# Altium footprint library BMP384.PcbLib: 3 footprints
Each footprint in its own frame and in the unit in brackets; x right, y up, seen from the top. Pads: shape width x height; smd on the part's side, far side on the other; paste and mask are expansions set on the pad; w line width, h text height; cw(c..) or ccw(c..) is an arc to the next point about the centre after c.
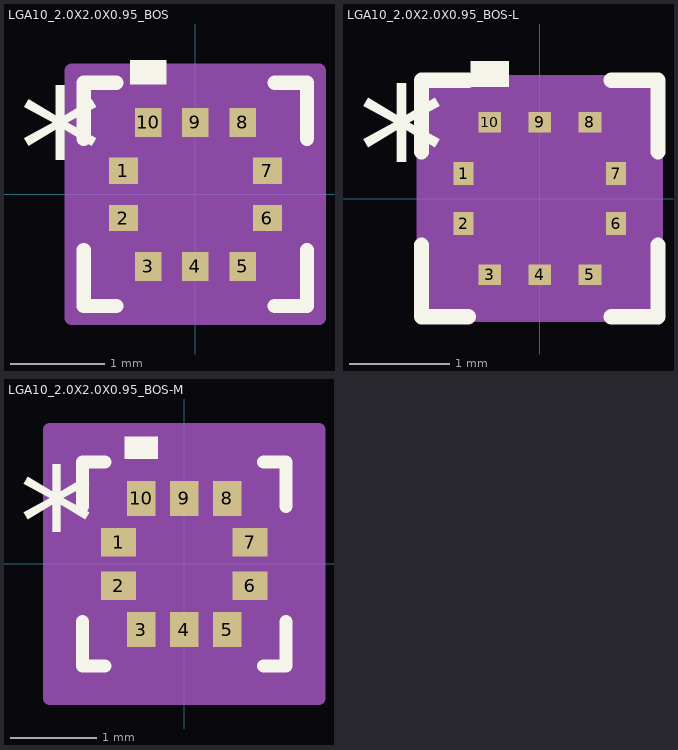
[diagram p0: the footprints below, top view; thin cyan lines are the x and y axes]

## LGA10_2.0X2.0X0.95_BOS [mil]
pads (10):
  rect 12x11 smd paste+0 mask+0: 1(-30,9.84) 2(-30,-9.84) 6(30,-9.84) 7(30,9.84)
  rect 11x12 smd paste+0 mask+0: 3(-19.68,-30) 4(0,-30) 5(19.68,-30) 8(19.68,30) 9(0,30) 10(-19.68,30)
Top Overlay:
  region: -12.19,46 -27.18,46 -27.18,56 -12.19,56
  lines w6: -46.5,-23.18 -46.5,-46.5 -33.02,-46.5 ; -46.5,23.18 -46.5,46.5 -33.02,46.5 ; 33.02,-46.5 46.5,-46.5 46.5,-23.18 ; 33.02,46.5 46.5,46.5 46.5,23.18
  text "*" at -73.5,-5.32 h50
Mechanical 13:
  lines w1: -41.5,-8.5 8.5,41.5 ; -41.5,-41.5 41.5,-41.5 ; -41.5,-41.5 -41.5,41.5 ; -41.5,-41.5 -41.5,-41.5 ; -41.5,41.5 41.5,41.5 ; -41.5,41.5 -41.5,41.5 ; 41.5,-41.5 41.5,-41.5 ; 41.5,-41.5 41.5,41.5 ; 41.5,41.5 41.5,41.5 ; -41.5,-15.34 -41.5,-4.34 -36,-4.34 -36,-15.34 -41.5,-15.34 ; -41.5,4.34 -41.5,15.34 -36,15.34 -36,4.34 -41.5,4.34 ; -25.18,-41.5 -14.19,-41.5 -14.19,-36 -25.18,-36 -25.18,-41.5 ; -25.18,36 -14.19,36 -14.19,41.5 -25.18,41.5 -25.18,36 ; -5.5,-41.5 5.5,-41.5 5.5,-36 -5.5,-36 -5.5,-41.5 ; -5.5,36 5.5,36 5.5,41.5 -5.5,41.5 -5.5,36 ; 14.19,-41.5 25.18,-41.5 25.18,-36 14.19,-36 14.19,-41.5 ; 14.19,36 25.18,36 25.18,41.5 14.19,41.5 14.19,36 ; 36,-15.34 41.5,-15.34 41.5,-4.34 36,-4.34 36,-15.34 ; 36,4.34 41.5,4.34 41.5,15.34 36,15.34 36,4.34
  text "*" at -36.5,-5.32 h50
Mechanical 15:
  region: -35.19,-51.5 -51.5,-51.5 -51.5,-25.34 -51.5,25.34 -51.5,51.5 -35.19,51.5 35.19,51.5 51.5,51.5 51.5,25.34 51.5,-25.34 51.5,-51.5 35.19,-51.5
  lines w6: -51.5,-25.34 -51.5,-51.5 -35.19,-51.5 ; -51.5,-25.34 -51.5,-25.34 ; -51.5,-25.34 -51.5,25.34 ; -51.5,25.34 -51.5,25.34 ; -51.5,25.34 -51.5,51.5 -35.19,51.5 ; -35.19,-51.5 35.19,-51.5 ; -35.19,-51.5 -35.19,-51.5 ; -35.19,51.5 -35.19,51.5 ; -35.19,51.5 35.19,51.5 ; 35.19,-51.5 51.5,-51.5 51.5,-25.34 ; 35.19,-51.5 35.19,-51.5 ; 35.19,51.5 35.19,51.5 ; 35.19,51.5 51.5,51.5 51.5,25.34 ; 51.5,-25.34 51.5,25.34 ; 51.5,-25.34 51.5,-25.34 ; 51.5,25.34 51.5,25.34
3D body "LGA10_20X20X095_BOS.step": height 39.09, standoff 0, extent -41.5,-41.5 41.5,41.5

## LGA10_2.0X2.0X0.95_BOS-L [mil]
pads (10):
  rect 8x9 smd paste+0 mask+0: 1(-30,9.84) 2(-30,-9.84) 6(30,-9.84) 7(30,9.84)
  rect 9x8 smd paste+0 mask+0: 3(-19.68,-30) 4(0,-30) 5(19.68,-30) 8(19.68,30) 9(0,30) 10(-19.68,30)
Top Overlay:
  region: -12.19,44 -27.18,44 -27.18,54 -12.19,54
  lines w6: -46.5,-18.26 -46.5,-46.5 -28.1,-46.5 ; -46.5,18.26 -46.5,46.5 -28.1,46.5 ; 28.1,-46.5 46.5,-46.5 46.5,-18.26 ; 28.1,46.5 46.5,46.5 46.5,18.26
  text "*" at -71.5,-5.32 h50
Mechanical 13:
  lines w1: -41.5,-8.5 8.5,41.5 ; -41.5,-41.5 41.5,-41.5 ; -41.5,-41.5 -41.5,41.5 ; -41.5,-41.5 -41.5,-41.5 ; -41.5,41.5 41.5,41.5 ; -41.5,41.5 -41.5,41.5 ; 41.5,-41.5 41.5,-41.5 ; 41.5,-41.5 41.5,41.5 ; 41.5,41.5 41.5,41.5 ; -41.5,-15.34 -41.5,-4.34 -36,-4.34 -36,-15.34 -41.5,-15.34 ; -41.5,4.34 -41.5,15.34 -36,15.34 -36,4.34 -41.5,4.34 ; -25.18,-41.5 -14.19,-41.5 -14.19,-36 -25.18,-36 -25.18,-41.5 ; -25.18,36 -14.19,36 -14.19,41.5 -25.18,41.5 -25.18,36 ; -5.5,-41.5 5.5,-41.5 5.5,-36 -5.5,-36 -5.5,-41.5 ; -5.5,36 5.5,36 5.5,41.5 -5.5,41.5 -5.5,36 ; 14.19,-41.5 25.18,-41.5 25.18,-36 14.19,-36 14.19,-41.5 ; 14.19,36 25.18,36 25.18,41.5 14.19,41.5 14.19,36 ; 36,-15.34 41.5,-15.34 41.5,-4.34 36,-4.34 36,-15.34 ; 36,4.34 41.5,4.34 41.5,15.34 36,15.34 36,4.34
  text "*" at -38.5,-5.32 h50
Mechanical 15:
  region: -28.18,-45.5 -45.5,-45.5 -45.5,-18.34 -45.5,18.34 -45.5,45.5 -28.18,45.5 28.18,45.5 45.5,45.5 45.5,18.34 45.5,-18.34 45.5,-45.5 28.18,-45.5
  lines w6: -45.5,-18.34 -45.5,-45.5 -28.18,-45.5 ; -45.5,-18.34 -45.5,-18.34 ; -45.5,-18.34 -45.5,18.34 ; -45.5,18.34 -45.5,18.34 ; -45.5,18.34 -45.5,45.5 -28.18,45.5 ; -28.18,-45.5 28.18,-45.5 ; -28.18,-45.5 -28.18,-45.5 ; -28.18,45.5 -28.18,45.5 ; -28.18,45.5 28.18,45.5 ; 28.18,-45.5 45.5,-45.5 45.5,-18.34 ; 28.18,-45.5 28.18,-45.5 ; 28.18,45.5 28.18,45.5 ; 28.18,45.5 45.5,45.5 45.5,18.34 ; 45.5,-18.34 45.5,18.34 ; 45.5,-18.34 45.5,-18.34 ; 45.5,18.34 45.5,18.34
3D body: height 10, standoff 0, extent 0,0 10,10

## LGA10_2.0X2.0X0.95_BOS-M [mil]
pads (10):
  rect 16x13 smd paste+0 mask+0: 1(-30,9.84) 2(-30,-9.84) 6(30,-9.84) 7(30,9.84)
  rect 13x16 smd paste+0 mask+0: 3(-19.68,-30) 4(0,-30) 5(19.68,-30) 8(19.68,30) 9(0,30) 10(-19.68,30)
Top Overlay:
  region: -12.19,48 -27.18,48 -27.18,58 -12.19,58
  lines w6: -46.5,-26.31 -46.5,-46.5 -36.15,-46.5 ; -46.5,26.31 -46.5,46.5 -36.15,46.5 ; 36.15,-46.5 46.5,-46.5 46.5,-26.31 ; 36.15,46.5 46.5,46.5 46.5,26.31
  text "*" at -75.5,-5.32 h50
Mechanical 13:
  lines w1: -41.5,-8.5 8.5,41.5 ; -41.5,-41.5 41.5,-41.5 ; -41.5,-41.5 -41.5,41.5 ; -41.5,-41.5 -41.5,-41.5 ; -41.5,41.5 41.5,41.5 ; -41.5,41.5 -41.5,41.5 ; 41.5,-41.5 41.5,-41.5 ; 41.5,-41.5 41.5,41.5 ; 41.5,41.5 41.5,41.5 ; -41.5,-15.34 -41.5,-4.34 -36,-4.34 -36,-15.34 -41.5,-15.34 ; -41.5,4.34 -41.5,15.34 -36,15.34 -36,4.34 -41.5,4.34 ; -25.18,-41.5 -14.19,-41.5 -14.19,-36 -25.18,-36 -25.18,-41.5 ; -25.18,36 -14.19,36 -14.19,41.5 -25.18,41.5 -25.18,36 ; -5.5,-41.5 5.5,-41.5 5.5,-36 -5.5,-36 -5.5,-41.5 ; -5.5,36 5.5,36 5.5,41.5 -5.5,41.5 -5.5,36 ; 14.19,-41.5 25.18,-41.5 25.18,-36 14.19,-36 14.19,-41.5 ; 14.19,36 25.18,36 25.18,41.5 14.19,41.5 14.19,36 ; 36,-15.34 41.5,-15.34 41.5,-4.34 36,-4.34 36,-15.34 ; 36,4.34 41.5,4.34 41.5,15.34 36,15.34 36,4.34
  text "*" at -34.5,-5.32 h50
Mechanical 15:
  region: -46.19,-61.5 -61.5,-61.5 -61.5,-36.34 -61.5,36.34 -61.5,61.5 -46.19,61.5 46.19,61.5 61.5,61.5 61.5,36.34 61.5,-36.34 61.5,-61.5 46.19,-61.5
  lines w6: -61.5,-36.34 -61.5,-61.5 -46.19,-61.5 ; -61.5,-36.34 -61.5,-36.34 ; -61.5,-36.34 -61.5,36.34 ; -61.5,36.34 -61.5,36.34 ; -61.5,36.34 -61.5,61.5 -46.19,61.5 ; -46.19,-61.5 46.19,-61.5 ; -46.19,-61.5 -46.19,-61.5 ; -46.19,61.5 -46.19,61.5 ; -46.19,61.5 46.19,61.5 ; 46.19,-61.5 61.5,-61.5 61.5,-36.34 ; 46.19,-61.5 46.19,-61.5 ; 46.19,61.5 46.19,61.5 ; 46.19,61.5 61.5,61.5 61.5,36.34 ; 61.5,-36.34 61.5,36.34 ; 61.5,-36.34 61.5,-36.34 ; 61.5,36.34 61.5,36.34
3D body: height 10, standoff 0, extent 0,0 10,10